# EAGLE library part PIC16F628A (library sj_mcu)
PIC16F628A MCU - 3.5KB FLASH, 224B SRAM, 128B EEPROM
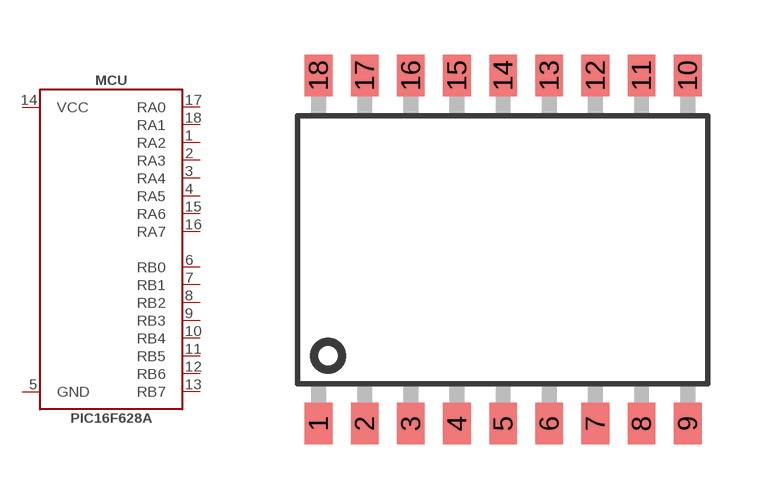
[diagram p5: symbol with the pads of SOP18; footprint SOP18]

Designator prefix MCU

## PIC16F628A-I/SO  [SOP18]
1  RA2
2  RA3
3  RA4
4  RA5
5  GND  pwr
6  RB0
7  RB1
8  RB2
9  RB3
10  RB4
11  RB5
12  RB6
13  RB7
14  VCC  pwr
15  RA6
16  RA7
17  RA0
18  RA1

## Footprint SOP18 (pad centres in mm)
18pin Small Outline Package
smd 0.762 x 1.143: 1 -5.08,-4.788; 2 -3.81,-4.788; 3 -2.54,-4.788; 4 -1.27,-4.788; 5 0,-4.788; 6 1.27,-4.788; 7 2.54,-4.788; 8 3.81,-4.788; 9 5.08,-4.788; 10 5.08,4.788; 11 3.81,4.788; 12 2.54,4.788; 13 1.27,4.788; 14 0,4.788; 15 -1.27,4.788; 16 -2.54,4.788; 17 -3.81,4.788; 18 -5.08,4.788